# Altium footprint library Straps.PcbLib: 18 footprints (part 2 of 2)
Each footprint in its own frame and in the unit in brackets; x right, y up, seen from the top. Pads: shape width x height; smd on the part's side, far side on the other; paste and mask are expansions set on the pad; w line width, h text height; cw(c..) or ccw(c..) is an arc to the next point about the centre after c.
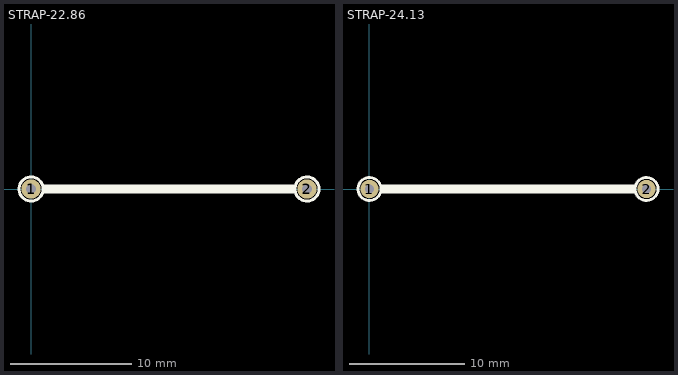
[diagram p1: the footprints below, top view; thin cyan lines are the x and y axes]

## STRAP-22.86 [mm]
pads (2):
  round 1.6 hole 0.8: 1(0,0) 2(22.86,0)
Top Overlay:
  circle w0.254: c22.86,0 r1
  circle w0.254: c0,0 r1
  lines w0.254: 1.016,0.254 20.574,0.254 21.844,0.254 ; 1,-0.254 1,0 ; 1,-0.254 20.574,-0.254 ; 1,-0.254 1,0 ; 1,0 20.574,0 ; 20.574,-0.254 21.844,-0.254 21.844,0.254 ; 20.574,-0.254 20.574,0 ; 20.574,0 21.844,0 ; 21.844,0 21.844,0.254 ; 21.844,0 21.844,0.254
3D body: height 0.9, standoff 0.1, extent 0.01,-0.403 22.87,0.394
3D body: height 0.9, standoff 0.1, extent -0.408,-0.388 0.392,0.411
3D body: height 0.9, standoff 0.1, extent 22.441,-0.403 23.241,0.397
3D body: height 0.5, standoff 0, extent 22.441,-0.401 23.241,0.399
3D body: height 0.5, standoff 0, extent -0.4,-0.398 0.4,0.401
3D body: height 0, standoff -0.8, extent -0.399,-0.4 0.4,0.4
3D body: height 0, standoff -0.8, extent 22.461,-0.4 23.26,0.4

## STRAP-24.13 [mm]
pads (2):
  round 1.6 hole 0.8: 1(0,0) 2(24.13,0)
Top Overlay:
  circle w0.254: c0,0 r1
  circle w0.254: c24.13,0 r1
  lines w0.254: 1.016,0.254 20.574,0.254 21.844,0.254 23.114,0.254 ; 1,-0.254 1,0 ; 1,-0.254 20.574,-0.254 ; 1,-0.254 1,0 ; 1,0 20.574,0 ; 20.574,-0.254 20.574,0 ; 20.574,-0.254 21.844,-0.254 ; 20.574,0 21.844,0 ; 21.844,-0.254 21.844,0 ; 21.844,-0.254 23.114,-0.254 23.114,0.254 ; 21.844,0 23.114,0 ; 23.114,0 23.114,0.254 ; 23.114,0 23.114,0.254 ; 23.114,0 23.114,0.254
3D body: height 0, standoff -0.8, extent 23.731,-0.4 24.53,0.4
3D body: height 0, standoff -0.8, extent -0.399,-0.4 0.4,0.4
3D body: height 0.5, standoff 0, extent -0.4,-0.398 0.4,0.401
3D body: height 0.5, standoff 0, extent 23.711,-0.401 24.511,0.399
3D body: height 0.9, standoff 0.1, extent 23.711,-0.403 24.511,0.397
3D body: height 0.9, standoff 0.1, extent -0.408,-0.388 0.392,0.411
3D body: height 0.9, standoff 0.1, extent 0.01,-0.403 24.14,0.394